# Altium schematic symbol library MGJ6T12.SchLib: 1 symbol
Pins are listed as number, name and electrical type; pins without a type are passive.

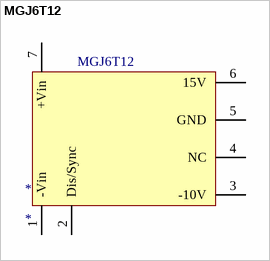
[diagram p0: symbol MGJ6T12]

## MGJ6T12
designator *
footprint MGJ6T12
pins: 1 -Vin, 2 Dis/Sync, 3 -10V, 4 NC, 5 GND, 6 15V, 7 +Vin